# EAGLE library part LT6820 (library STAC)
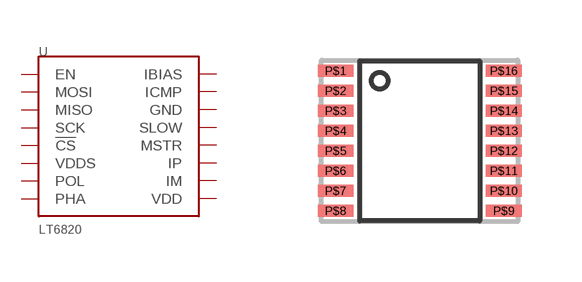
[diagram p8: symbol with the pads of MSOP-16; footprint MSOP-16]

Designator prefix U

## LT6820  [MSOP-16]
P$1  EN
P$2  MOSI
P$3  MISO
P$4  SCK
P$5  !CS
P$6  VDDS
P$7  POL
P$8  PHA
P$9  VDD
P$10  IM
P$11  IP
P$12  MSTR
P$13  SLOW
P$14  GND
P$15  ICMP
P$16  IBIAS

## Footprint MSOP-16 (pad centres in mm)
16 Lea MSOP Based on LTC6820 Pattern cds.linear.com/docs/en/datasheet/6820fb.pdf
smd 0.89 x 0.305: P$1 -2.105,1.75; P$2 -2.105,1.25; P$3 -2.105,0.75; P$4 -2.105,0.25; P$5 -2.105,-0.25; P$6 -2.105,-0.75; P$7 -2.105,-1.25; P$8 -2.105,-1.75; P$9 2.105,-1.75; P$10 2.105,-1.25; P$11 2.105,-0.75; P$12 2.105,-0.25; P$13 2.105,0.25; P$14 2.105,0.75; P$15 2.105,1.25; P$16 2.105,1.75